# Altium footprint library Dual-In-Line Package.PcbLib: 120 footprints (part 5 of 8)
Each footprint in its own frame and in the unit in brackets; x right, y up, seen from the top. Pads: shape width x height; smd on the part's side, far side on the other; paste and mask are expansions set on the pad; w line width, h text height; cw(c..) or ccw(c..) is an arc to the next point about the centre after c.
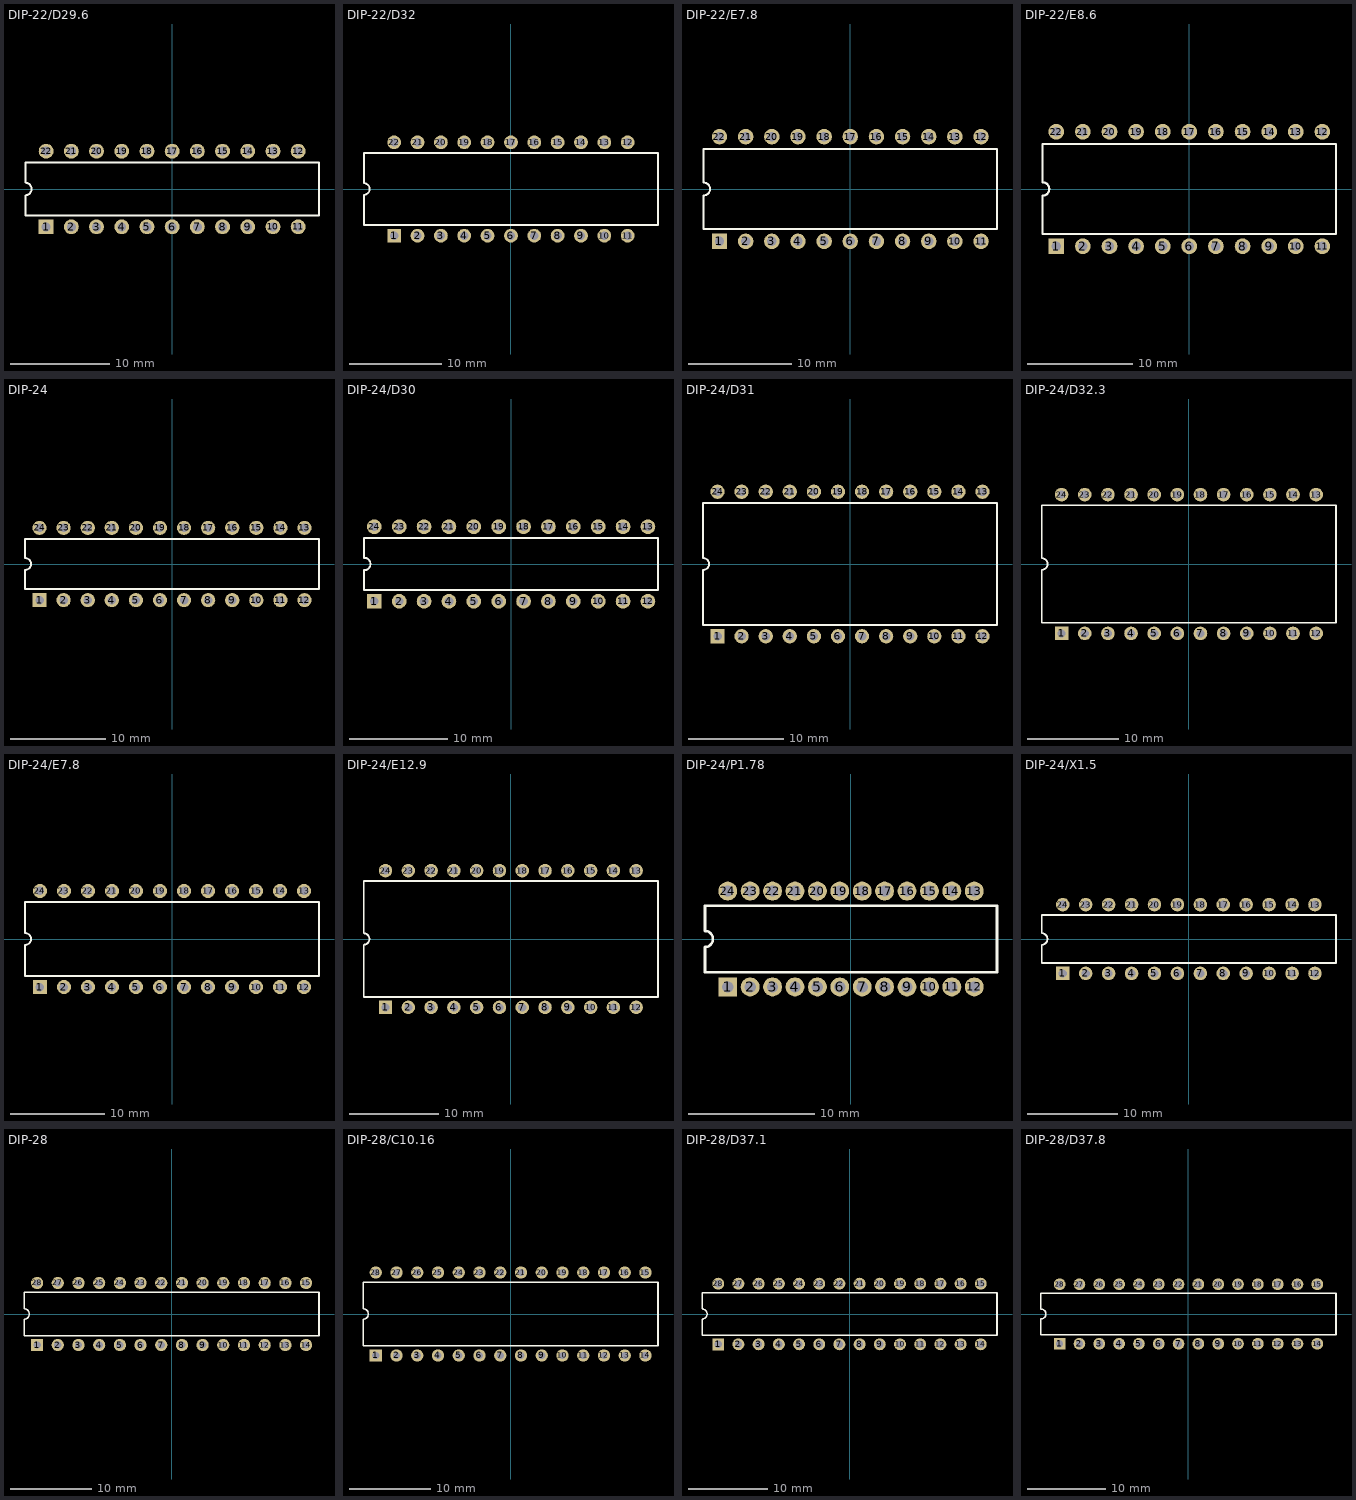
[diagram p4: the footprints below, top view; thin cyan lines are the x and y axes]

## DIP-22/D29.6 [mm] "DIP, Plastic; 22 Leads; Row Spacing 7.62 mm; Pitch 2.54 mm"
height 5.34
pads (22):
  rect 1.5x1.5 hole 0.9: 1(-12.7,-3.81)
  round 1.5 hole 0.9: 2(-10.16,-3.81) 3(-7.62,-3.81) 4(-5.08,-3.81) 5(-2.54,-3.81) 6(0,-3.81) 7(2.54,-3.81) 8(5.08,-3.81) 9(7.62,-3.81) 10(10.16,-3.81) 11(12.7,-3.81) 12(12.7,3.81) 13(10.16,3.81) 14(7.62,3.81) 15(5.08,3.81) 16(2.54,3.81) 17(0,3.81) 18(-2.54,3.81) 19(-5.08,3.81) 20(-7.62,3.81) 21(-10.16,3.81) 22(-12.7,3.81)
Top Overlay:
  lines w0.2: -14.8,-2.65 -14.8,-0.635 ccw(c-14.8,0) -14.8,0.635 -14.8,2.65 14.8,2.65 14.8,-2.65 -14.8,-2.65

## DIP-22/D32 [mm] "DIP; 22 Leads; Row Spacing 10.16 mm; Pitch 2.54 mm"
height 5.71
pads (22):
  rect 1.5x1.5 hole 0.9: 1(-12.7,-5.08)
  round 1.5 hole 0.9: 2(-10.16,-5.08) 3(-7.62,-5.08) 4(-5.08,-5.08) 5(-2.54,-5.08) 6(0,-5.08) 7(2.54,-5.08) 8(5.08,-5.08) 9(7.62,-5.08) 10(10.16,-5.08) 11(12.7,-5.08) 12(12.7,5.08) 13(10.16,5.08) 14(7.62,5.08) 15(5.08,5.08) 16(2.54,5.08) 17(0,5.08) 18(-2.54,5.08) 19(-5.08,5.08) 20(-7.62,5.08) 21(-10.16,5.08) 22(-12.7,5.08)
Top Overlay:
  lines w0.2: -16,-3.9 16,-3.9 16,3.9 -16,3.9 -16,0.635 cw(c-16,0) -16,-0.635 -16,-3.9

## DIP-22/E7.8 [mm] "DIP; 22 Leads; Row Spacing 10.16 mm; Pitch 2.54 mm"
height 5.33
pads (22):
  rect 1.5x1.5 hole 0.9: 1(-12.7,-5.08)
  round 1.5 hole 0.9: 2(-10.16,-5.08) 3(-7.62,-5.08) 4(-5.08,-5.08) 5(-2.54,-5.08) 6(0,-5.08) 7(2.54,-5.08) 8(5.08,-5.08) 9(7.62,-5.08) 10(10.16,-5.08) 11(12.7,-5.08) 12(12.7,5.08) 13(10.16,5.08) 14(7.62,5.08) 15(5.08,5.08) 16(2.54,5.08) 17(0,5.08) 18(-2.54,5.08) 19(-5.08,5.08) 20(-7.62,5.08) 21(-10.16,5.08) 22(-12.7,5.08)
Top Overlay:
  lines w0.2: -14.25,-3.9 14.25,-3.9 14.25,3.9 -14.25,3.9 -14.25,0.635 cw(c-14.25,0) -14.25,-0.635 -14.25,-3.9

## DIP-22/E8.6 [mm] "DIP; 22 Leads; Row Spacing 10.92 mm; Pitch 2.54 mm"
height 3.56
pads (22):
  rect 1.5x1.5 hole 0.9: 1(-12.7,-5.46)
  round 1.5 hole 0.9: 2(-10.16,-5.46) 3(-7.62,-5.46) 4(-5.08,-5.46) 5(-2.54,-5.46) 6(0,-5.46) 7(2.54,-5.46) 8(5.08,-5.46) 9(7.62,-5.46) 10(10.16,-5.46) 11(12.7,-5.46) 12(12.7,5.46) 13(10.16,5.46) 14(7.62,5.46) 15(5.08,5.46) 16(2.54,5.46) 17(0,5.46) 18(-2.54,5.46) 19(-5.08,5.46) 20(-7.62,5.46) 21(-10.16,5.46) 22(-12.7,5.46)
Top Overlay:
  lines w0.2: -14,-4.3 14,-4.3 14,4.3 -14,4.3 -14,0.635 cw(c-14,0) -14,-0.635 -14,-4.3

## DIP-24 [mm] "DIP; 24 Leads; Row Spacing 7.62 mm; Pitch 2.54 mm"
height 4.06
pads (24):
  rect 1.5x1.5 hole 0.9: 1(-13.97,-3.81)
  round 1.5 hole 0.9: 2(-11.43,-3.81) 3(-8.89,-3.81) 4(-6.35,-3.81) 5(-3.81,-3.81) 6(-1.27,-3.81) 7(1.27,-3.81) 8(3.81,-3.81) 9(6.35,-3.81) 10(8.89,-3.81) 11(11.43,-3.81) 12(13.97,-3.81) 13(13.97,3.81) 14(11.43,3.81) 15(8.89,3.81) 16(6.35,3.81) 17(3.81,3.81) 18(1.27,3.81) 19(-1.27,3.81) 20(-3.81,3.81) 21(-6.35,3.81) 22(-8.89,3.81) 23(-11.43,3.81) 24(-13.97,3.81)
Top Overlay:
  lines w0.2: -15.5,-2.65 15.5,-2.65 15.5,2.65 -15.5,2.65 -15.5,0.635 cw(c-15.5,0) -15.5,-0.635 -15.5,-2.65

## DIP-24/D30 [mm] "DIP; 24 Leads; Row Spacing 7.62 mm; Pitch 2.54 mm"
height 4.57
pads (24):
  rect 1.5x1.5 hole 0.9: 1(-13.97,-3.81)
  round 1.5 hole 0.9: 2(-11.43,-3.81) 3(-8.89,-3.81) 4(-6.35,-3.81) 5(-3.81,-3.81) 6(-1.27,-3.81) 7(1.27,-3.81) 8(3.81,-3.81) 9(6.35,-3.81) 10(8.89,-3.81) 11(11.43,-3.81) 12(13.97,-3.81) 13(13.97,3.81) 14(11.43,3.81) 15(8.89,3.81) 16(6.35,3.81) 17(3.81,3.81) 18(1.27,3.81) 19(-1.27,3.81) 20(-3.81,3.81) 21(-6.35,3.81) 22(-8.89,3.81) 23(-11.43,3.81) 24(-13.97,3.81)
Top Overlay:
  lines w0.2: -15,-2.65 15,-2.65 15,2.65 -15,2.65 -15,0.635 cw(c-15,0) -15,-0.635 -15,-2.65

## DIP-24/D31 [mm] "DIP; 24 Leads; Row Spacing 15.24 mm; Pitch 2.54 mm"
height 4.32
pads (24):
  rect 1.5x1.5 hole 0.9: 1(-13.97,-7.62)
  round 1.5 hole 0.9: 2(-11.43,-7.62) 3(-8.89,-7.62) 4(-6.35,-7.62) 5(-3.81,-7.62) 6(-1.27,-7.62) 7(1.27,-7.62) 8(3.81,-7.62) 9(6.35,-7.62) 10(8.89,-7.62) 11(11.43,-7.62) 12(13.97,-7.62) 13(13.97,7.62) 14(11.43,7.62) 15(8.89,7.62) 16(6.35,7.62) 17(3.81,7.62) 18(1.27,7.62) 19(-1.27,7.62) 20(-3.81,7.62) 21(-6.35,7.62) 22(-8.89,7.62) 23(-11.43,7.62) 24(-13.97,7.62)
Top Overlay:
  lines w0.2: -15.5,-6.45 15.5,-6.45 15.5,6.45 -15.5,6.45 -15.5,0.635 cw(c-15.5,0) -15.5,-0.635 -15.5,-6.45

## DIP-24/D32.3 [mm] "DIP; 24 Leads; Row Spacing 15.24 mm; Pitch 2.54 mm"
height 4.98
pads (24):
  rect 1.5x1.5 hole 0.9: 1(-13.97,-7.62)
  round 1.5 hole 0.9: 2(-11.43,-7.62) 3(-8.89,-7.62) 4(-6.35,-7.62) 5(-3.81,-7.62) 6(-1.27,-7.62) 7(1.27,-7.62) 8(3.81,-7.62) 9(6.35,-7.62) 10(8.89,-7.62) 11(11.43,-7.62) 12(13.97,-7.62) 13(13.97,7.62) 14(11.43,7.62) 15(8.89,7.62) 16(6.35,7.62) 17(3.81,7.62) 18(1.27,7.62) 19(-1.27,7.62) 20(-3.81,7.62) 21(-6.35,7.62) 22(-8.89,7.62) 23(-11.43,7.62) 24(-13.97,7.62)
Top Overlay:
  lines w0.2: -16.15,-6.45 -16.15,-0.635 ccw(c-16.15,0) -16.15,0.635 -16.15,6.45 16.15,6.45 16.15,-6.45 -16.15,-6.45

## DIP-24/E7.8 [mm] "DIP; 24 Leads; Row Spacing 10.16 mm; Pitch 2.54 mm"
height 5.08
pads (24):
  rect 1.5x1.5 hole 0.9: 1(-13.97,-5.08)
  round 1.5 hole 0.9: 2(-11.43,-5.08) 3(-8.89,-5.08) 4(-6.35,-5.08) 5(-3.81,-5.08) 6(-1.27,-5.08) 7(1.27,-5.08) 8(3.81,-5.08) 9(6.35,-5.08) 10(8.89,-5.08) 11(11.43,-5.08) 12(13.97,-5.08) 13(13.97,5.08) 14(11.43,5.08) 15(8.89,5.08) 16(6.35,5.08) 17(3.81,5.08) 18(1.27,5.08) 19(-1.27,5.08) 20(-3.81,5.08) 21(-6.35,5.08) 22(-8.89,5.08) 23(-11.43,5.08) 24(-13.97,5.08)
Top Overlay:
  lines w0.2: -15.55,-3.9 15.55,-3.9 15.55,3.9 -15.55,3.9 -15.55,0.635 cw(c-15.55,0) -15.55,-0.635 -15.55,-3.9

## DIP-24/E12.9 [mm] "DIP; 24 Leads; Row Spacing 15.24 mm; Pitch 2.54 mm"
height 5.08
pads (24):
  rect 1.5x1.5 hole 0.9: 1(-13.97,-7.62)
  round 1.5 hole 0.9: 2(-11.43,-7.62) 3(-8.89,-7.62) 4(-6.35,-7.62) 5(-3.81,-7.62) 6(-1.27,-7.62) 7(1.27,-7.62) 8(3.81,-7.62) 9(6.35,-7.62) 10(8.89,-7.62) 11(11.43,-7.62) 12(13.97,-7.62) 13(13.97,7.62) 14(11.43,7.62) 15(8.89,7.62) 16(6.35,7.62) 17(3.81,7.62) 18(1.27,7.62) 19(-1.27,7.62) 20(-3.81,7.62) 21(-6.35,7.62) 22(-8.89,7.62) 23(-11.43,7.62) 24(-13.97,7.62)
Top Overlay:
  lines w0.2: -16.4,-6.45 -16.4,-0.635 ccw(c-16.4,0) -16.4,0.635 -16.4,6.45 16.4,6.45 16.4,-6.45 -16.4,-6.45

## DIP-24/P1.78 [mm] "DIP; 24 Leads; Row Spacing 7.62 mm; Pitch 1.778 mm"
height 5.08
pads (24):
  rect 1.5x1.5 hole 0.9: 1(-9.79,-3.81)
  round 1.5 hole 0.9: 2(-8.01,-3.81) 3(-6.23,-3.81) 4(-4.45,-3.81) 5(-2.67,-3.81) 6(-0.89,-3.81) 7(0.89,-3.81) 8(2.67,-3.81) 9(4.45,-3.81) 10(6.23,-3.81) 11(8.01,-3.81) 12(9.79,-3.81) 13(9.79,3.81) 14(8.01,3.81) 15(6.23,3.81) 16(4.45,3.81) 17(2.67,3.81) 18(0.89,3.81) 19(-0.89,3.81) 20(-2.67,3.81) 21(-4.45,3.81) 22(-6.23,3.81) 23(-8.01,3.81) 24(-9.79,3.81)
Top Overlay:
  lines w0.2: -11.6,-2.65 -11.6,-0.635 ccw(c-11.6,0) -11.6,0.635 -11.6,2.65 11.6,2.65 11.6,-2.65 -11.6,-2.65

## DIP-24/X1.5 [mm] "DIP; 24 Leads; Row Spacing 7.62 mm; Pitch 2.54 mm"
height 5.33
pads (24):
  rect 1.5x1.5 hole 0.9: 1(-13.97,-3.81)
  round 1.5 hole 0.9: 2(-11.43,-3.81) 3(-8.89,-3.81) 4(-6.35,-3.81) 5(-3.81,-3.81) 6(-1.27,-3.81) 7(1.27,-3.81) 8(3.81,-3.81) 9(6.35,-3.81) 10(8.89,-3.81) 11(11.43,-3.81) 12(13.97,-3.81) 13(13.97,3.81) 14(11.43,3.81) 15(8.89,3.81) 16(6.35,3.81) 17(3.81,3.81) 18(1.27,3.81) 19(-1.27,3.81) 20(-3.81,3.81) 21(-6.35,3.81) 22(-8.89,3.81) 23(-11.43,3.81) 24(-13.97,3.81)
Top Overlay:
  lines w0.2: -16.3,-2.65 16.3,-2.65 16.3,2.65 -16.3,2.65 -16.3,0.635 cw(c-16.3,0) -16.3,-0.635 -16.3,-2.65

## DIP-28 [mm] "DIP; 28 Leads; Row Spacing 7.62 mm; Pitch 2.54 mm"
height 4.06
pads (28):
  rect 1.5x1.5 hole 0.9: 1(-16.51,-3.81)
  round 1.5 hole 0.9: 2(-13.97,-3.81) 3(-11.43,-3.81) 4(-8.89,-3.81) 5(-6.35,-3.81) 6(-3.81,-3.81) 7(-1.27,-3.81) 8(1.27,-3.81) 9(3.81,-3.81) 10(6.35,-3.81) 11(8.89,-3.81) 12(11.43,-3.81) 13(13.97,-3.81) 14(16.51,-3.81) 15(16.51,3.81) 16(13.97,3.81) 17(11.43,3.81) 18(8.89,3.81) 19(6.35,3.81) 20(3.81,3.81) 21(1.27,3.81) 22(-1.27,3.81) 23(-3.81,3.81) 24(-6.35,3.81) 25(-8.89,3.81) 26(-11.43,3.81) 27(-13.97,3.81) 28(-16.51,3.81)
Top Overlay:
  lines w0.2: -18.1,-2.65 -18.1,-0.635 ccw(c-18.1,0) -18.1,0.635 -18.1,2.65 18.1,2.65 18.1,-2.65 -18.1,-2.65

## DIP-28/C10.16 [mm] "DIP, Plastic; 28 Leads; Row Spacing 10.16 mm; Pitch 2.54 mm"
height 5.34
pads (28):
  rect 1.5x1.5 hole 0.9: 1(-16.51,-5.08)
  round 1.5 hole 0.9: 2(-13.97,-5.08) 3(-11.43,-5.08) 4(-8.89,-5.08) 5(-6.35,-5.08) 6(-3.81,-5.08) 7(-1.27,-5.08) 8(1.27,-5.08) 9(3.81,-5.08) 10(6.35,-5.08) 11(8.89,-5.08) 12(11.43,-5.08) 13(13.97,-5.08) 14(16.51,-5.08) 15(16.51,5.08) 16(13.97,5.08) 17(11.43,5.08) 18(8.89,5.08) 19(6.35,5.08) 20(3.81,5.08) 21(1.27,5.08) 22(-1.27,5.08) 23(-3.81,5.08) 24(-6.35,5.08) 25(-8.89,5.08) 26(-11.43,5.08) 27(-13.97,5.08) 28(-16.51,5.08)
Top Overlay:
  lines w0.2: -18.05,-3.9 -18.05,-0.635 ccw(c-18.05,0) -18.05,0.635 -18.05,3.9 18.05,3.9 18.05,-3.9 -18.05,-3.9

## DIP-28/D37.1 [mm] "28-Pin Ceramic Dual In-Line Package (CerDIP)"
height 5.08
pads (28):
  rect 1.5x1.5 hole 0.9: 1(-16.51,-3.81)
  round 1.5 hole 0.9: 2(-13.97,-3.81) 3(-11.43,-3.81) 4(-8.89,-3.81) 5(-6.35,-3.81) 6(-3.81,-3.81) 7(-1.27,-3.81) 8(1.27,-3.81) 9(3.81,-3.81) 10(6.35,-3.81) 11(8.89,-3.81) 12(11.43,-3.81) 13(13.97,-3.81) 14(16.51,-3.81) 15(16.51,3.81) 16(13.97,3.81) 17(11.43,3.81) 18(8.89,3.81) 19(6.35,3.81) 20(3.81,3.81) 21(1.27,3.81) 22(-1.27,3.81) 23(-3.81,3.81) 24(-6.35,3.81) 25(-8.89,3.81) 26(-11.43,3.81) 27(-13.97,3.81) 28(-16.51,3.81)
Top Overlay:
  lines w0.2: -18.55,-2.65 18.55,-2.65 18.55,2.65 -18.55,2.65 -18.55,0.635 cw(c-18.55,0) -18.55,-0.635 -18.55,-2.65

## DIP-28/D37.8 [mm] "CerDIP; 28 Leads; Row Spacing 7.62 mm; Pitch 2.54 mm"
height 5.08
pads (28):
  rect 1.5x1.5 hole 0.9: 1(-16.51,-3.81)
  round 1.5 hole 0.9: 2(-13.97,-3.81) 3(-11.43,-3.81) 4(-8.89,-3.81) 5(-6.35,-3.81) 6(-3.81,-3.81) 7(-1.27,-3.81) 8(1.27,-3.81) 9(3.81,-3.81) 10(6.35,-3.81) 11(8.89,-3.81) 12(11.43,-3.81) 13(13.97,-3.81) 14(16.51,-3.81) 15(16.51,3.81) 16(13.97,3.81) 17(11.43,3.81) 18(8.89,3.81) 19(6.35,3.81) 20(3.81,3.81) 21(1.27,3.81) 22(-1.27,3.81) 23(-3.81,3.81) 24(-6.35,3.81) 25(-8.89,3.81) 26(-11.43,3.81) 27(-13.97,3.81) 28(-16.51,3.81)
Top Overlay:
  lines w0.2: -18.9,-2.65 18.9,-2.65 18.9,2.65 -18.9,2.65 -18.9,0.635 cw(c-18.9,0) -18.9,-0.635 -18.9,-2.65